# Altium schematic symbol library iMX6 TinyRex Baseboard Lite_V1I1.SCHLIB: 106 symbols (part 3 of 3)
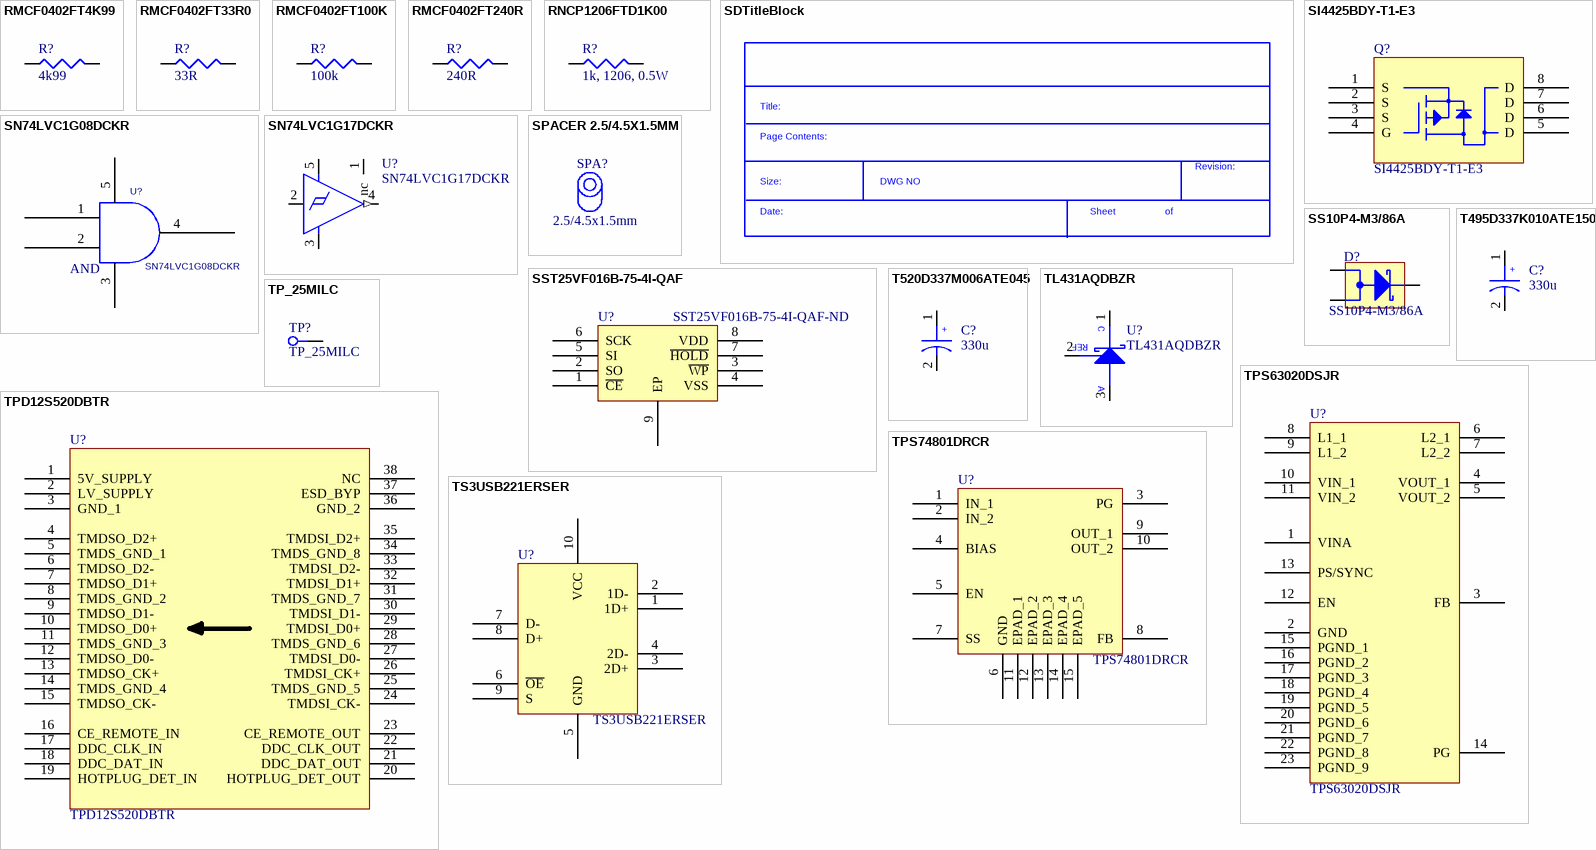
[diagram p5: symbols RMCF0402FT4K99 to TS3USB221ERSER]

## TL431AQDBZR
designator U?
IC VREF SHUNT ADJ SOT23-3; Manufacturer: Texas Instruments; Output Type: Adjustable; Voltage - Output (Min/Fixed): 2.495V; Voltage - Output (Max): 36V; Current - Output: 100mA; Tolerance: ±1%; Current - Cathode: 700µA; .Checked PCB: MM; Supplier 1: Digi-Key; Manufacturer Part Number: TL431AQDBZR; RoHS: RoHS Compliant; Category: Integrated Circuits (ICs); Stock 1: 14090; Pricing 1: 1=0.48, 10=0.323, 100=0.151, 1000=0.131 (USD); Packaging: Cut Tape (CT); Reference Type: Shunt; Temperature Coefficient: -; Noise - 0.1Hz to 10Hz: -; Noise - 10Hz to 10kHz: -; Voltage - Input: -; Current - Supply: -; Operating Temperature: -40°C ~ 125°C (TA); Mounting Type: Surface Mount; Package / Case: TO-236-3, SC-59, SOT-23-3; Supplier Device Package: SOT-23-3; ComponentLink1URL: http://www.ti.com/lit/ds/symlink/tl431a.pdf; ComponentLink1Description: http://www.ti.com/lit/ds/symlink/tl431a.pdf; Supplier Part Number 1: 296-18864-1-ND; .Checked SCH: MM; .Creator: MM
footprint SOT-23-3-123
pins: 1 cathode, 2 REF, 3 ANODE
text: C; A

## TP_25MILC
designator TP?  (no BOM)
Test Point 25mil
footprint TP_25C
pins: 1

## TPD12S520DBTR
designator U?
IC HDMI RCVR PORT PROT 38-TSSOP; Manufacturer: Texas Instruments; Voltage - Supply: 5V; .Creator: MM; Supplier 1: Digi-Key; Manufacturer Part Number: TPD12S520DBTR; RoHS: RoHS Compliant; Category: Integrated Circuits (ICs); Stock 1: 5619; Pricing 1: 1=1.87, 10=1.685, 25=1.5092, 100=1.3572, 250=1.20512, 500=1.053, 750=0.95355, 1000=0.73125 (USD); Packaging: Cut Tape (CT); Applications: Video Equipment; Interface: HDMI; Package / Case: 38-TFSOP (0.173", 4.40mm Width); Supplier Device Package: 38-TSSOP; Mounting Type: Surface Mount; ComponentLink1URL: http://www.ti.com/lit/ds/symlink/tpd12s520.pdf; ComponentLink1Description: http://www.ti.com/lit/ds/symlink/tpd12s520.pdf; Supplier Part Number 1: 296-23617-1-ND; .Checked PCB: MM; .Checked SCH: MM
footprint TSSOP_38
pins: 1 5V_SUPPLY, 2 LV_SUPPLY, 3 GND_1, 4 TMDSO_D2+, 5 TMDS_GND_1, 6 TMDSO_D2-, 7 TMDSO_D1+, 8 TMDS_GND_2, 9 TMDSO_D1-, 10 TMDSO_D0+, 11 TMDS_GND_3, 12 TMDSO_D0-, 13 TMDSO_CK+, 14 TMDS_GND_4, 15 TMDSO_CK-, 16 CE_REMOTE_IN, 17 DDC_CLK_IN, 18 DDC_DAT_IN, 19 HOTPLUG_DET_IN, 20 HOTPLUG_DET_OUT, 21 DDC_DAT_OUT, 22 DDC_CLK_OUT, 23 CE_REMOTE_OUT, 24 TMDSI_CK-, 25 TMDS_GND_5, 26 TMDSI_CK+, 27 TMDSI_D0-, 28 TMDS_GND_6, 29 TMDSI_D0+, 30 TMDSI_D1-, 31 TMDS_GND_7, 32 TMDSI_D1+, 33 TMDSI_D2-, 34 TMDS_GND_8, 35 TMDSI_D2+, 36 GND_2, 37 ESD_BYP, 38 NC

## TPS63020DSJR
designator U?
IC REG BUCK BST SYNC ADJ 14VSON; Manufacturer: Texas Instruments; Output Type: Adjustable; Number of Outputs: 1; Voltage - Output: 1.2 V ~ 5.5 V; Voltage - Input: 1.8 V ~ 5.5 V; Frequency - Switching: 2.4MHz; Current - Output: 3A; Synchronous Rectifier: Yes; .Creator: MM; Supplier 1: Digi-Key; Manufacturer Part Number: TPS63020DSJR; RoHS: RoHS Compliant; Category: Integrated Circuits (ICs); Stock 1: 3608; Pricing 1: 1=4.92, 10=4.412, 25=3.9672, 100=3.6081, 250=3.26612, 500=2.9241, 750=2.65051, 1000=2.1375 (USD); Packaging: Cut Tape (CT); Type: Step-Down (Buck), Step-Up (Boost); Operating Temperature: -40°C ~ 85°C; Mounting Type: Surface Mount; Package / Case: 14-VFDFN Exposed Pad; Supplier Device Package: 14-VSON (4x3); ComponentLink1URL: http://www.ti.com/lit/ds/symlink/tps63020.pdf; ComponentLink1Description: http://www.ti.com/lit/ds/symlink/tps63020.pdf; Supplier Part Number 1: 296-36491-1-ND; .Checked PCB: MM; .Checked SCH: MM
footprint DSJ (R-PVSON-N14) (Creator MM)
pins: 1 VINA, 2 GND, 3 FB, 4 VOUT_1, 5 VOUT_2, 6 L2_1, 7 L2_2, 8 L1_1, 9 L1_2, 10 VIN_1, 11 VIN_2, 12 EN, 13 PS/SYNC, 14 PG, 15 PGND_1, 16 PGND_2, 17 PGND_3, 18 PGND_4, 19 PGND_5, 20 PGND_6, 21 PGND_7, 22 PGND_8, 23 PGND_9

## TPS74801DRCR
designator U?
IC REG LDO ADJ 1.5A 10SON; Manufacturer: Texas Instruments; Number of Regulators: 1; Regulator Topology: Positive Adjustable; Voltage - Input: 0.8 V ~ 5.5 V; Voltage - Output: 0.8 V ~ 3.6 V; Voltage - Dropout (Typical): 0.06V @ 1.5A; Current - Output: 1.5A (Max); Current - Limit (Min): 2A; .Creator: MM; .Checked PCB: used; Supplier 1: Digi-Key; Manufacturer Part Number: TPS74801DRCR; RoHS: RoHS Compliant; Category: Integrated Circuits (ICs); Stock 1: 11680; Pricing 1: 1=2.3, 10=2.074, 25=1.8576, 100=0.972, 250=0.954, 500=0.936, 750=0.918 (USD); Packaging: Cut Tape (CT); Operating Temperature: -40°C ~ 125°C; Mounting Type: Surface Mount; Package / Case: 10-VFDFN Exposed Pad; Supplier Device Package: 10-SON (3x3); ComponentLink1URL: http://www.ti.com/lit/ds/symlink/tps74801.pdf; ComponentLink1Description: http://www.ti.com/lit/ds/symlink/tps74801.pdf; Supplier Part Number 1: 296-21563-1-ND; .Checked SCH: used
footprint DRC (S-PVSON-N10) (Creator MM)
pins: 1 IN_1, 2 IN_2, 3 PG, 4 BIAS, 5 EN, 6 GND, 7 SS, 8 FB, 9 OUT_1, 10 OUT_2, 11 EPAD_1, 12 EPAD_2, 13 EPAD_3, 14 EPAD_4, 15 EPAD_5

## TS3USB221ERSER
designator U?
IC USB SWITCH DUAL 1X2 10-QFN; Manufacturer: Texas Instruments; Circuit: 2 x 2:1; On-State Resistance: 200 mOhm; Voltage Supply Source: Single Supply; Voltage - Supply, Single/Dual (±): 2.3 V ~ 3.6 V; Current - Supply: 30µA; .Creator: MM; Supplier 1: Digi-Key; Manufacturer Part Number: TS3USB221ERSER; RoHS: RoHS Compliant; Category: Integrated Circuits (ICs); Stock 1: 25220; Pricing 1: 1=1.22, 10=0.98, 100=0.753, 500=0.581, 1000=0.525 (USD); Packaging: Cut Tape (CT); Function: USB Switch; Operating Temperature: -40°C ~ 85°C; Mounting Type: Surface Mount; Package / Case: 10-UFQFN; Supplier Device Package: 10-UQFN (2.0x1.5); ComponentLink1URL: http://www.ti.com/lit/ds/symlink/ts3usb221e.pdf; ComponentLink1Description: http://www.ti.com/lit/ds/symlink/ts3usb221e.pdf; Supplier Part Number 1: 296-25222-1-ND; .Checked SCH: MM; .Checked PCB: MM
footprint RSE (R-PUQFN-N10) (Creator MM)
pins: 1 1D+, 2 1D-, 3 2D+, 4 2D-, 5 GND, 6 ~{OE}, 7 D-, 8 D+, 9 S, 10 VCC